# EAGLE library part STM32L021D4P6 (library circuit_tree)
IC
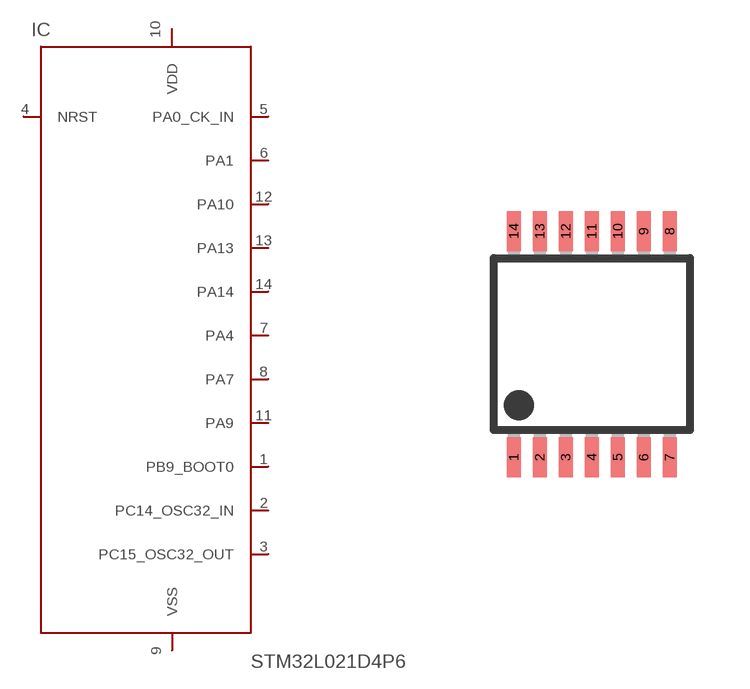
[diagram p3: symbol with the pads of TSSOP14; footprint TSSOP14]

Designator prefix IC

## STM32L021D4P6  [TSSOP14]
1  PB9_BOOT0  pas
2  PC14_OSC32_IN  pas
3  PC15_OSC32_OUT  pas
4  NRST  pas
5  PA0_CK_IN  pas
6  PA1  pas
7  PA4  pas
8  PA7  pas
9  VSS  pas
10  VDD  pas
11  PA9  pas
12  PA10  pas
13  PA13  pas
14  PA14  pas

## Footprint TSSOP14 (pad centres in mm)
14-Lead Plastic Thin Shrink Small Outline (ST) - 4.4 mm Body [TSSOP] Source: www.microchip.com/packaging
smd 0.35 x 1: 1 -1.95,-2.825; 2 -1.3,-2.825; 3 -0.65,-2.825; 4 0,-2.825; 5 0.65,-2.825; 6 1.3,-2.825; 7 1.95,-2.825; 8 1.95,2.825; 9 1.3,2.825; 10 0.65,2.825; 11 0,2.825; 12 -0.65,2.825; 13 -1.3,2.825; 14 -1.95,2.825